# EAGLE library part LTC3723-1 (library PowerProducts)
Synchronous Push-Pull PWM Controllers
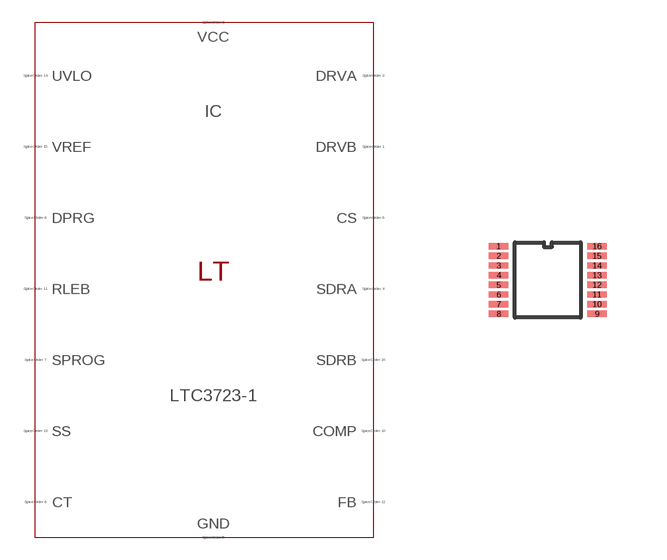
[diagram p298: symbol with the pads of SSOP16(GN); footprint SSOP16(GN)]

Designator prefix IC

## LTC3723-1 (SPICEMODEL: LTC3723-1.sub; SPICEPREFIX: X; VALUE2: LTC3723-1)  [SSOP16(GN)]
1  VREF  pas
2  SDRB  pas
3  SDRA  pas
4  DRVB  pas
5  VCC  pas
6  DRVA  pas
7  GND  pas
8  CT  pas
9  DPRG  pas
10  CS  pas
11  COMP  pas
12  RLEB  pas
13  FB  pas
14  SS  pas
15  UVLO  pas
16  SPROG  pas

## Footprint SSOP16(GN) (pad centres in mm)
Package generated from: SSOP16(GN).asc (!PADS-POWERPCB-V5.0-BASIC! DESIGN DATABASE ASCII FILE 1.0) with :import-pads-powerpcb-v5.ulp Version 1.0.1 at 04.10.2012 14:11:37
smd 0.484 x 0.16: 1 -1.229,0.847; 2 -1.229,0.605; 3 -1.229,0.363; 4 -1.229,0.121; 5 -1.229,-0.121; 6 -1.229,-0.363; 7 -1.229,-0.605; 8 -1.229,-0.847; 9 1.229,-0.847; 10 1.229,-0.605; 11 1.229,-0.363; 12 1.229,-0.121; 13 1.229,0.121; 14 1.229,0.363; 15 1.229,0.605; 16 1.229,0.847